# EAGLE library part LM1881M (library ic)
Texas Instruments LM1881M Video sync decoder IC
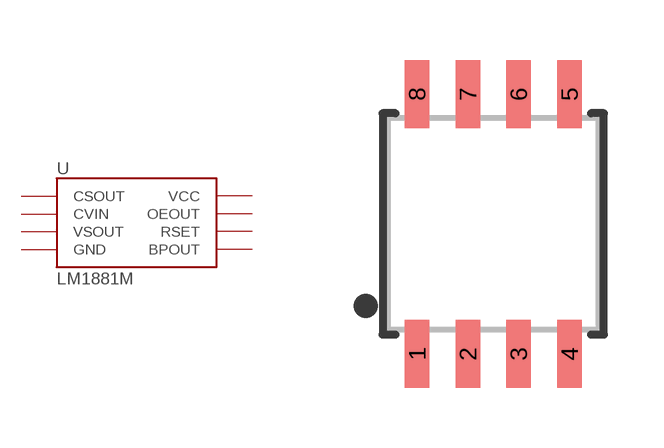
[diagram p0: symbol with the pads of SOIC-8; footprint SOIC-8]

Designator prefix -

## LM1881M  [SOIC-8]
1  CSOUT
2  CVIN
3  VSOUT
4  GND  pwr
5  BPOUT
6  RSET
7  OEOUT
8  VCC  pwr

## Footprint SOIC-8 (pad centres in mm)
8-Pin SOIC 208-mil
smd 0.61 x 1.702: 1 -1.905,-3.251; 2 -0.635,-3.251; 3 0.635,-3.251; 4 1.905,-3.251; 5 1.905,3.251; 6 0.635,3.251; 7 -0.635,3.251; 8 -1.905,3.251